# EAGLE library part 6490XX21122_64902021122 (library Wurth_Connectors_WR-MPC4)
WR-MPC4 4.20 mm Male Dual Row Vertical Header KIND PROPERTIES: Pitch:4.2 mm Gender:Male MATERIAL PROPERTIES: Insulator Material :PA66 Insulator Flammability Rating:UL94 V-0 Insulator Color:White Contact Material:Copper Alloy Contact Plating:Tin over Nickel Contact Type:Stamped GENERAL INFORMATION Operating Temperature:-40 up to +105 °C Working Voltage:600V (AC) Withstanding Voltage:1500 V (AC) Contact Resistance:10 mΩ RISO:1000 MΩ PACKAGING PROPERTIES Packaging:Tray <https://katalog.we-online.com/media/images/v2/o33113v209%20Family_WR-MCP4_6490xx21122.jpg> Details see: https://katalog.we-online.com/en/em/MPC4_4_20_MALE_DUAL_ROW_VERTICAL_HEADER_6490XX21122 Updated by Yingchun,Shan 2019-11-12 2019 (C) Würth Elektronik
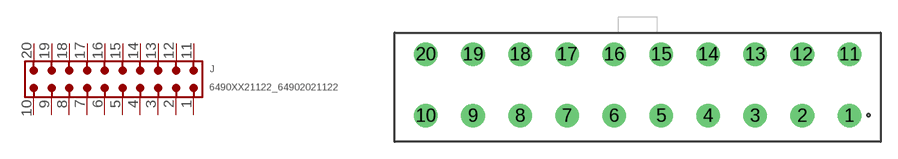
[diagram p5: symbol with the pads of 64902021122; footprint 64902021122]

Designator prefix J

## 6490XX21122_64902021122 (CONTACT-RESISTANCE: 10mOhm; DATASHEET-URL: https://www.we-online.com/catalog/datasheet/64902021122.pdf; GENDER: Male; L: 43.2mm; MATE-WITH: WR-MPC4 4.20 mm Female Dual Row Plug; MOUNT: THT; PACKAGING: Tray; PART-NUMBER: 64902021122; PCB-CABLE-PANEL: PCB; PINS: 20; PITCH: 4.2mm; ROWS: Dual; TOL-R: max.; TYPE: Vertical; WORKING-VOLTAGE: 600V(AC))  [64902021122]
1  1  pas
2  2  pas
3  3  pas
4  4  pas
5  5  pas
6  6  pas
7  7  pas
8  8  pas
9  9  pas
10  10  pas
11  11  pas
12  12  pas
13  13  pas
14  14  pas
15  15  pas
16  16  pas
17  17  pas
18  18  pas
19  19  pas
20  20  pas

## Footprint 64902021122 (pad centres in mm)
WR-MPC4 4.20 mm Male Dual Row Vertical Header, 20 Pins
drill 1.4: 1 18.9,-2.55; 2 14.7,-2.55; 3 10.5,-2.55; 4 6.3,-2.55; 5 2.1,-2.55; 6 -2.1,-2.55; 7 -6.3,-2.55; 8 -10.5,-2.55; 9 -14.7,-2.55; 10 -18.9,-2.55; 11 18.9,2.95; 12 14.7,2.95; 13 10.5,2.95; 14 6.3,2.95; 15 2.1,2.95; 16 -2.1,2.95; 17 -6.3,2.95; 18 -10.5,2.95; 19 -14.7,2.95; 20 -18.9,2.95